# Altium schematic symbol library HCJ1206ZT0R00.SchLib: 1 symbol
Pins are listed as number, name and electrical type; pins without a type are passive.

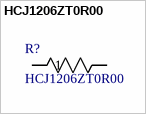
[diagram p0: symbol HCJ1206ZT0R00]

## HCJ1206ZT0R00
designator R?
Description; Manufacturer_Name: Stackpole International; Copyright: Copyright (C) 2025 Ultra Librarian. All rights reserved.; Manufacturer_Part_Number: HCJ1206ZT0R00
footprint RES_HCJ1206_STP
pins: 1, 2